# EAGLE library part PIC24HJ128GP206A (library 1dah)
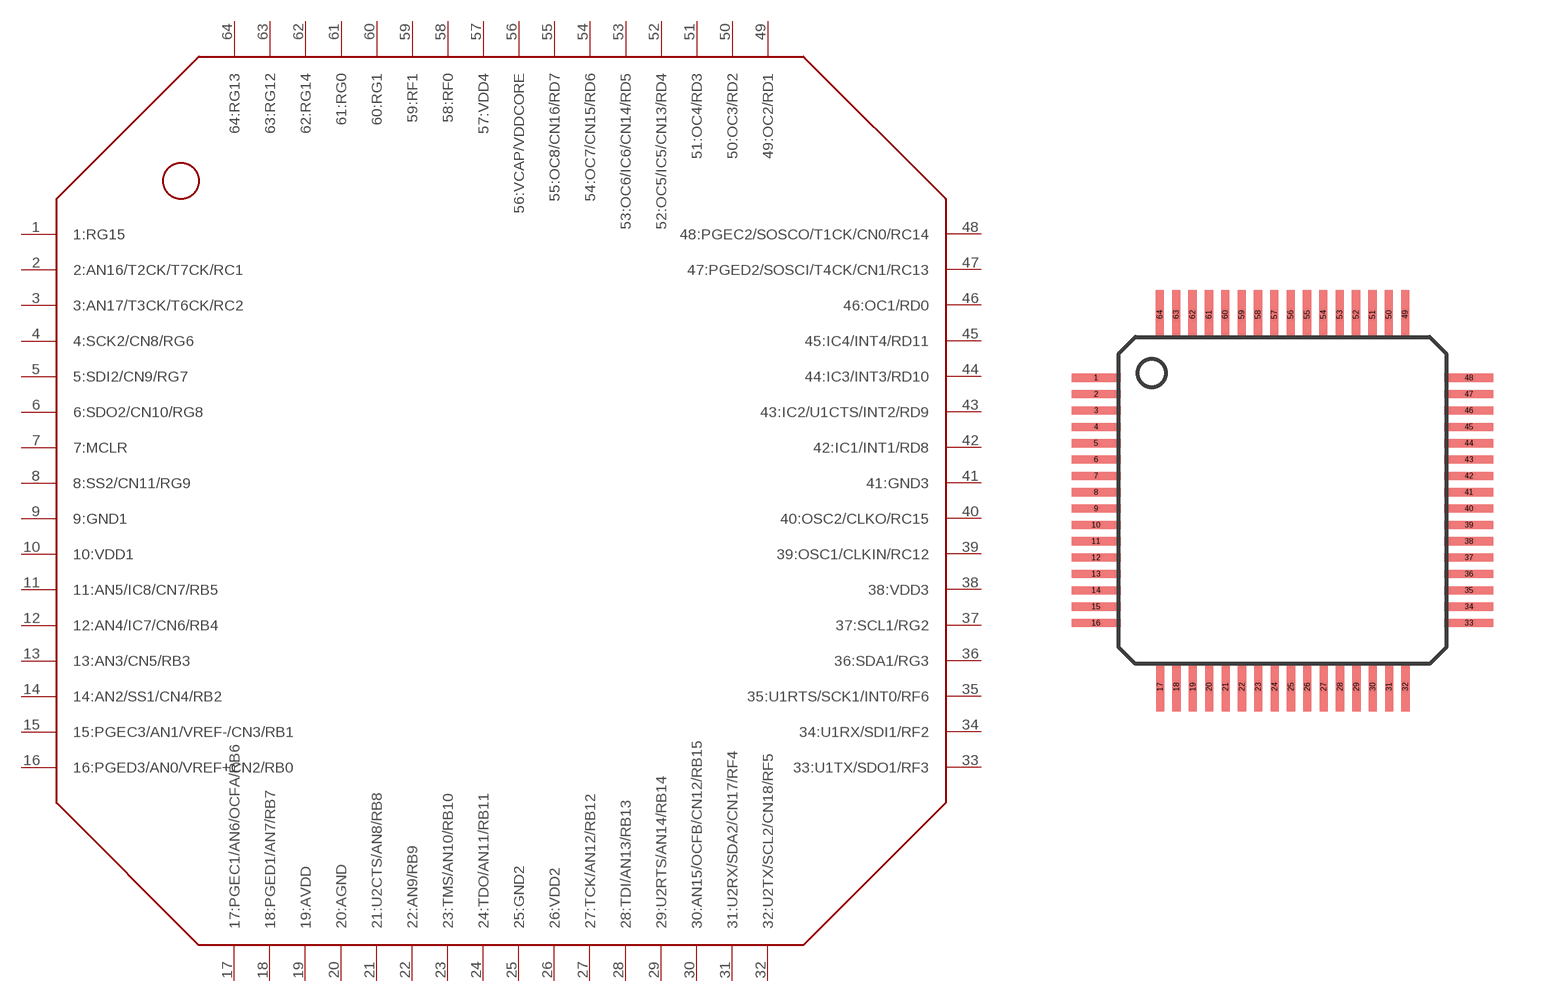
[diagram p14: symbol with the pads of TQFP64; footprint TQFP64]

Designator prefix -

## PIC24HJ128GP206A  [TQFP64]
1  1:RG15
2  2:AN16/T2CK/T7CK/RC1
3  3:AN17/T3CK/T6CK/RC2
4  4:SCK2/CN8/RG6
5  5:SDI2/CN9/RG7
6  6:SDO2/CN10/RG8
7  7:MCLR
8  8:SS2/CN11/RG9
9  9:GND1
10  10:VDD1
11  11:AN5/IC8/CN7/RB5
12  12:AN4/IC7/CN6/RB4
13  13:AN3/CN5/RB3
14  14:AN2/SS1/CN4/RB2
15  15:PGEC3/AN1/VREF-/CN3/RB1
16  16:PGED3/AN0/VREF+CN2/RB0
17  17:PGEC1/AN6/OCFA/RB6
18  18:PGED1/AN7/RB7
19  19:AVDD
20  20:AGND
21  21:U2CTS/AN8/RB8
22  22:AN9/RB9
23  23:TMS/AN10/RB10
24  24:TDO/AN11/RB11
25  25:GND2
26  26:VDD2
27  27:TCK/AN12/RB12
28  28:TDI/AN13/RB13
29  29:U2RTS/AN14/RB14
30  30:AN15/OCFB/CN12/RB15
31  31:U2RX/SDA2/CN17/RF4
32  32:U2TX/SCL2/CN18/RF5
33  33:U1TX/SDO1/RF3
34  34:U1RX/SDI1/RF2
35  35:U1RTS/SCK1/INT0/RF6
36  36:SDA1/RG3
37  37:SCL1/RG2
38  38:VDD3
39  39:OSC1/CLKIN/RC12
40  40:OSC2/CLKO/RC15
41  41:GND3
42  42:IC1/INT1/RD8
43  43:IC2/U1CTS/INT2/RD9
44  44:IC3/INT3/RD10
45  45:IC4/INT4/RD11
46  46:OC1/RD0
47  47:PGED2/SOSCI/T4CK/CN1/RC13
48  48:PGEC2/SOSCO/T1CK/CN0/RC14
49  49:OC2/RD1
50  50:OC3/RD2
51  51:OC4/RD3
52  52:OC5/IC5/CN13/RD4
53  53:OC6/IC6/CN14/RD5
54  54:OC7/CN15/RD6
55  55:OC8/CN16/RD7
56  56:VCAP/VDDCORE
57  57:VDD4
58  58:RF0
59  59:RF1
60  60:RG1
61  61:RG0
62  62:RG14
63  63:RG12
64  64:RG13

## Footprint TQFP64 (pad centres in mm)
smd 1.5 x 0.25: 1 -5.7,3.75; 2 -5.7,3.25; 3 -5.7,2.75; 4 -5.7,2.25; 5 -5.7,1.75; 6 -5.7,1.25; 7 -5.7,0.75; 8 -5.7,0.25; 9 -5.7,-0.25; 10 -5.7,-0.75; 11 -5.7,-1.25; 12 -5.7,-1.75; 13 -5.7,-2.25; 14 -5.7,-2.75; 15 -5.7,-3.25; 16 -5.7,-3.75; 33 5.7,-3.75; 34 5.7,-3.25; 35 5.7,-2.75; 36 5.7,-2.25; 37 5.7,-1.75; 38 5.7,-1.25; 39 5.7,-0.75; 40 5.7,-0.25; 41 5.7,0.25; 42 5.7,0.75; 43 5.7,1.25; 44 5.7,1.75; 45 5.7,2.25; 46 5.7,2.75; 47 5.7,3.25; 48 5.7,3.75
smd 0.25 x 1.5: 17 -3.74,-5.7; 18 -3.24,-5.7; 19 -2.74,-5.7; 20 -2.24,-5.7; 21 -1.74,-5.7; 22 -1.24,-5.7; 23 -0.74,-5.7; 24 -0.24,-5.7; 25 0.26,-5.7; 26 0.76,-5.7; 27 1.26,-5.7; 28 1.76,-5.7; 29 2.26,-5.7; 30 2.76,-5.7; 31 3.26,-5.7; 32 3.76,-5.7; 49 3.75,5.69; 50 3.25,5.69; 51 2.75,5.69; 52 2.25,5.69; 53 1.75,5.69; 54 1.25,5.69; 55 0.75,5.69; 56 0.25,5.69; 57 -0.25,5.69; 58 -0.75,5.69; 59 -1.25,5.69; 60 -1.75,5.69; 61 -2.25,5.69; 62 -2.75,5.69; 63 -3.25,5.69; 64 -3.75,5.69